# Altium schematic symbol library MAX13237EETE.Schlib: 1 symbol
Pins are listed as number, name and electrical type; pins without a type are passive.

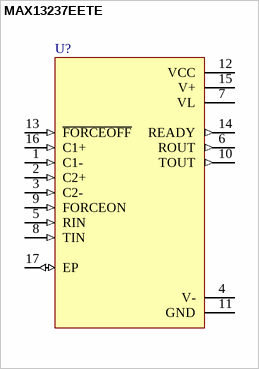
[diagram p0: symbol MAX13237EETE]

## MAX13237EETE
designator U?
1/1 Transceiver Full RS232 16-TQFN (5x5)
pins: 1 C1- (in), 2 C2+ (in), 3 C2- (in), 4 V- (power), 5 RIN (in), 6 ROUT (out), 7 VL (power), 8 TIN (in), 9 FORCEON (in), 10 TOUT (out), 11 GND (power), 12 VCC (power), 13 ~{FORCEOFF} (in), 14 READY (out), 15 V+ (power), 16 C1+ (in), 17 EP (io)